# Altium footprint library M83513_13-A.PcbLib: 1 footprints
Each footprint in its own frame and in the unit in brackets; x right, y up, seen from the top. Pads: shape width x height; smd on the part's side, far side on the other; paste and mask are expansions set on the pad; w line width, h text height; cw(c..) or ccw(c..) is an arc to the next point about the centre after c.
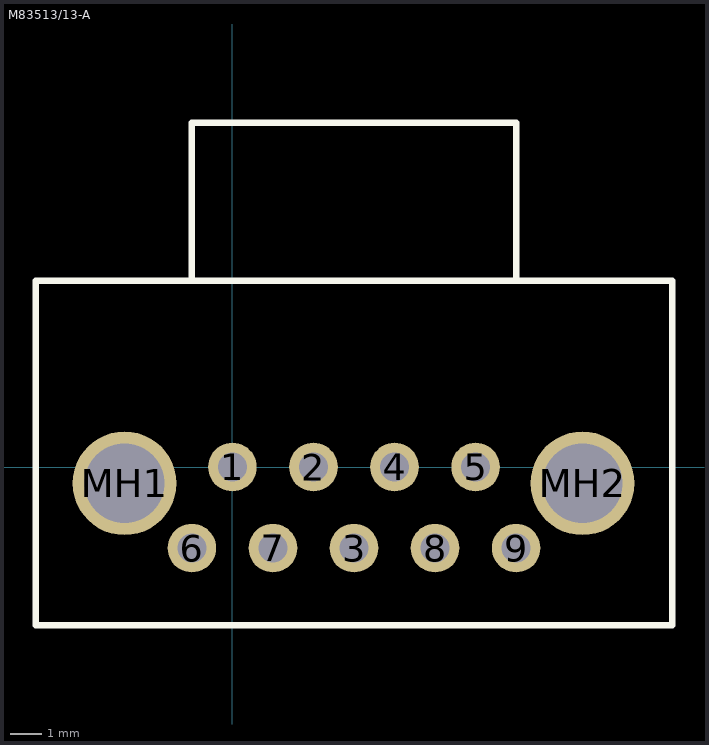
[diagram p0: the footprint, top view; thin cyan lines are the x and y axes]

## M83513/13-A [mil] "Micro-D connector"
height 314.96
pads (11):
  round 60 hole 36: 1(0,0) 2(100,0) 3(150,-100) 4(200,0) 5(300,0) 6(-50,-100) 7(50,-100) 8(250,-100) 9(350,-100)
  round 128 hole 98.43: MH1(-133.07,-20.08) MH2(431.89,-20.08)
Top Overlay:
  lines w7.87: -50,229.92 -50,424.8 349.21,424.8 ; 350,229.92 350,424.8 ; -242.52,-195.28 -242.52,229.92 542.52,229.92 542.52,-195.28 -242.52,-195.28
3D body: height 246.85, standoff 62.99, extent -50.69,229.82 350.39,426.18
3D body: height 309.84, standoff 0, extent -242.13,-194.88 542.32,230.31